# Altium schematic symbol library LED_RGB.SchLib: 1 symbol
Pins are listed as number, name and electrical type; pins without a type are passive.

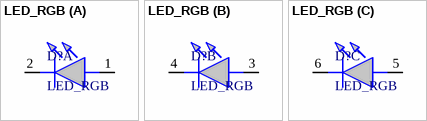
[diagram p0: symbol LED_RGB]

## LED_RGB
designator D?
footprint RGB_LED_5x5
part A pins: 1 A, 2 K
part B pins: 3 A, 4 K
part C pins: 5 A, 6 K